# Altium schematic symbol library ME6209.SchLib: 1 symbol
Pins are listed as number, name and electrical type; pins without a type are passive.

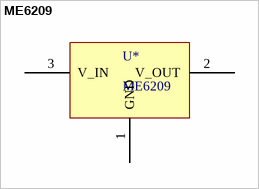
[diagram p0: symbol ME6209]

## ME6209
designator U*
footprint SOT95P285X150-3N (SOT23, 3-Leads, Body 2,95x2,85mm, Pitch 0,95mm, IPC Medium Density)
pins: 1 GND, 2 V_OUT, 3 V_IN